# EAGLE library part BLUETOOTH_HC05 (library OpenHealth)
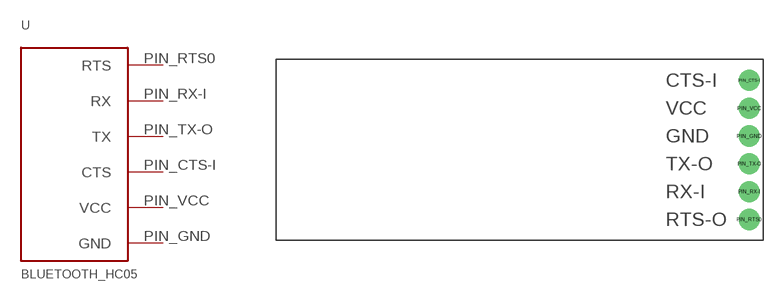
[diagram p0: symbol with the pads of BLUETOOTH_HC05; footprint BLUETOOTH_HC05]

Designator prefix -

## BLUETOOTH_HC05  [BLUETOOTH_HC05]
PIN_CTS-I  CTS
PIN_GND  GND
PIN_RTS0  RTS
PIN_RX-I  RX
PIN_TX-O  TX
PIN_VCC  VCC

## Footprint BLUETOOTH_HC05 (pad centres in mm)
drill 0.8 pad 1.93: PIN_CTS-I 43.18,14.605; PIN_GND 43.18,9.525; PIN_RTS0 43.18,1.905; PIN_RX-I 43.18,4.445; PIN_TX-O 43.18,6.985; PIN_VCC 43.18,12.065